# Altium footprint library 2P terminal.PcbLib: 2 footprints
Each footprint in its own frame and in the unit in brackets; x right, y up, seen from the top. Pads: shape width x height; smd on the part's side, far side on the other; paste and mask are expansions set on the pad; w line width, h text height; cw(c..) or ccw(c..) is an arc to the next point about the centre after c.
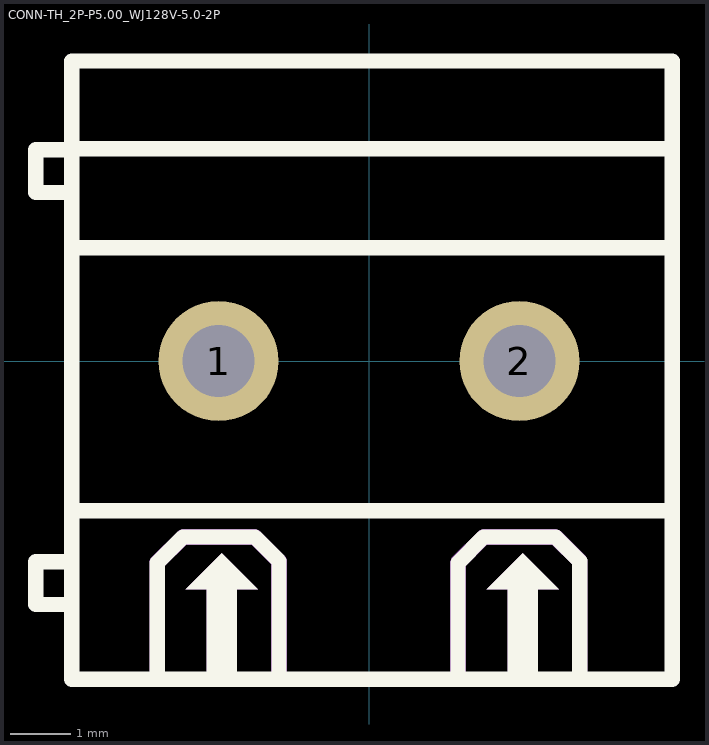
[diagram p0: the footprints below, top view; thin cyan lines are the x and y axes]

## CONN-TH_2P-P5.00_WJ128V-5.0-2P [mm]
pads (2):
  round 2 hole 1.2 paste-2539.97 mask+0.051: 1(-2.504,0) 2(2.504,0)
Top Overlay:
  region: 1.959,-3.8 3.159,-3.8 2.559,-3.2
  region: 2.309,-5.4 2.309,-3.8 2.809,-3.8 2.809,-5.4
  region: -2.7,-5.4 -2.7,-3.8 -2.2,-3.8 -2.2,-5.4
  region: -3.05,-3.8 -1.85,-3.8 -2.45,-3.2
  lines w0.254: -4.95,-5.3 -4.95,5 5.05,5 5.05,-5.3 -4.94,-5.3 ; -4.95,-4.053 -5.55,-4.053 -5.55,-3.342 -4.95,-3.342 ; -4.95,-2.489 5.05,-2.489 ; -4.95,1.891 5.05,1.891 ; -4.95,2.81 -5.55,2.81 -5.55,3.521 -4.95,3.521 ; -4.95,3.536 5.05,3.536 ; -3.529,-5.3 -3.529,-3.359 -3.1,-2.93 -1.9,-2.93 -1.5,-3.33 -1.5,-5.3 ; 1.48,-5.3 1.48,-3.359 1.909,-2.93 3.109,-2.93 3.509,-3.33 3.509,-5.3
Mechanical 15:
  region: 1.959,-3.8 3.159,-3.8 2.559,-3.2
  region: 2.309,-5.4 2.309,-3.8 2.809,-3.8 2.809,-5.4
  region: -3.05,-3.8 -1.85,-3.8 -2.45,-3.2
  region: -2.7,-5.4 -2.7,-3.8 -2.2,-3.8 -2.2,-5.4
  region: 1.353,-5.3 1.353,-3.359 1.353,-3.346 1.358,-3.322 1.368,-3.298 1.382,-3.278 1.391,-3.269 1.819,-2.84 1.828,-2.831 1.849,-2.818 1.872,-2.808 1.896,-2.803 1.909,-2.803 3.109,-2.803 3.121,-2.803 3.146,-2.808 3.169,-2.818 3.19,-2.831 3.199,-2.84 3.599,-3.24 3.608,-3.249 3.621,-3.27 3.631,-3.293 3.636,-3.318 3.636,-3.33 3.636,-5.3 3.636,-5.353 3.561,-5.427 3.456,-5.427 3.382,-5.353 3.382,-5.3 3.382,-3.383 3.056,-3.057 1.962,-3.057 1.607,-3.411 1.607,-5.3 1.607,-5.353 1.533,-5.427 1.428,-5.427 1.353,-5.353
  region: -3.656,-5.3 -3.656,-3.359 -3.656,-3.346 -3.651,-3.322 -3.641,-3.298 -3.627,-3.278 -3.618,-3.269 -3.19,-2.84 -3.181,-2.831 -3.16,-2.817 -3.137,-2.808 -3.112,-2.803 -3.1,-2.803 -1.9,-2.803 -1.887,-2.803 -1.863,-2.808 -1.84,-2.817 -1.819,-2.831 -1.81,-2.84 -1.41,-3.24 -1.401,-3.249 -1.387,-3.27 -1.378,-3.293 -1.373,-3.318 -1.373,-3.33 -1.373,-5.3 -1.373,-5.353 -1.447,-5.427 -1.553,-5.427 -1.627,-5.353 -1.627,-5.3 -1.627,-3.383 -1.953,-3.057 -3.047,-3.057 -3.402,-3.411 -3.402,-5.3 -3.402,-5.353 -3.476,-5.427 -3.581,-5.427 -3.656,-5.353
3D body "2er Terminal Block.step": height 14.18, standoff -4.07, extent -5.044,-5 5.516,5

## PCBComponent_1 [mm]